# EAGLE library part EF9345 (library ef9345)
Single Chip Semi-Graphic Display Processor EF9345
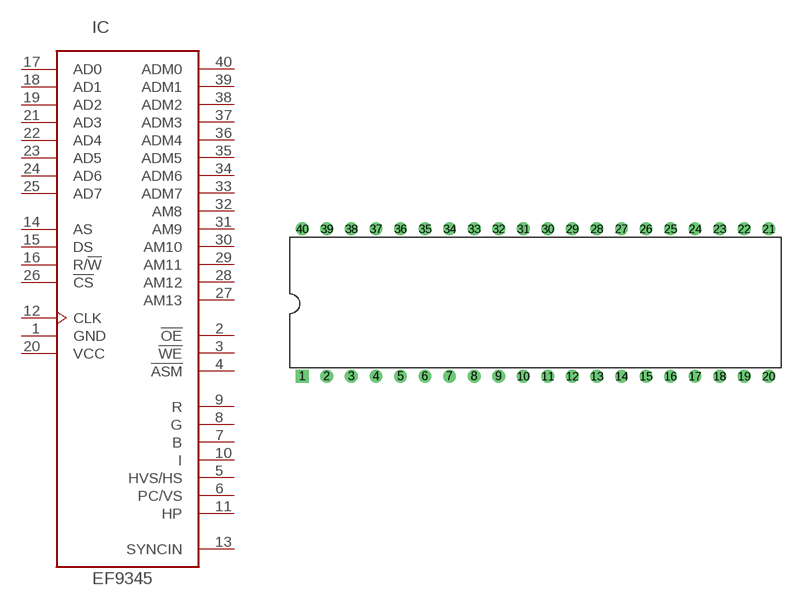
[diagram p3: symbol with the pads of DIL40; footprint DIL40]

Designator prefix IC

## EF9345  [DIL40]
1  GND  pwr
2  !OE
3  !WE
4  !ASM
5  HVS/HS  out
6  PC/VS  out
7  B  out
8  G  out
9  R  out
10  I  out
11  HP  out
12  CLK  in
13  SYNCIN  in
14  AS  in
15  DS  in
16  R/!W  in
17  AD0
18  AD1
19  AD2
20  VCC  pwr
21  AD3
22  AD4
23  AD5
24  AD6
25  AD7
26  !CS  in
27  AM13  out
28  AM12  out
29  AM11  out
30  AM10  out
31  AM9  out
32  AM8  out
33  ADM7
34  ADM6
35  ADM5
36  ADM4
37  ADM3
38  ADM2
39  ADM1
40  ADM0

## Footprint DIL40 (pad centres in mm)
Dual In Line Package
drill 0.813 square: 1 -24.13,-7.62
drill 0.813: 2 -21.59,-7.62; 3 -19.05,-7.62; 4 -16.51,-7.62; 5 -13.97,-7.62; 6 -11.43,-7.62; 7 -8.89,-7.62; 8 -6.35,-7.62; 9 -3.81,-7.62; 10 -1.27,-7.62; 11 1.27,-7.62; 12 3.81,-7.62; 13 6.35,-7.62; 14 8.89,-7.62; 15 11.43,-7.62; 16 13.97,-7.62; 17 16.51,-7.62; 18 19.05,-7.62; 19 21.59,-7.62; 20 24.13,-7.62; 21 24.13,7.62; 22 21.59,7.62; 23 19.05,7.62; 24 16.51,7.62; 25 13.97,7.62; 26 11.43,7.62; 27 8.89,7.62; 28 6.35,7.62; 29 3.81,7.62; 30 1.27,7.62; 31 -1.27,7.62; 32 -3.81,7.62; 33 -6.35,7.62; 34 -8.89,7.62; 35 -11.43,7.62; 36 -13.97,7.62; 37 -16.51,7.62; 38 -19.05,7.62; 39 -21.59,7.62; 40 -24.13,7.62